# EAGLE library part ADS1115 (library IntegratedLib)
ADC Externo Low-Power 4Ch, 16bits (VSSOP-10)
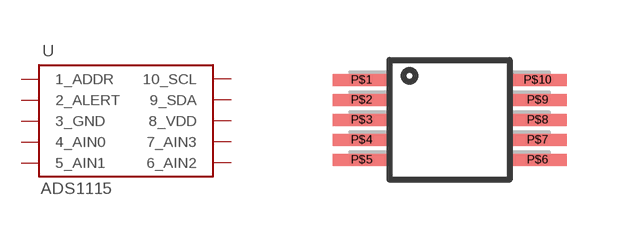
[diagram p36: symbol with the pads of VSSOP-10; footprint VSSOP-10]

Designator prefix U

## ADS1115 (FABRICANTE: TEXAS INSTRUMENTS; PARTNUMBER: ADS1115IDGS; TIPO: CIRCUITO INTEGRADO)  [VSSOP-10]
P$1  1_ADDR
P$2  2_ALERT
P$3  3_GND
P$4  4_AIN0
P$5  5_AIN1
P$6  6_AIN2
P$7  7_AIN3
P$8  8_VDD
P$9  9_SDA
P$10  10_SCL

## Footprint VSSOP-10 (pad centres in mm)
smd 1.45 x 0.3: P$1 -2.2,1; P$2 -2.2,0.5; P$3 -2.2,0; P$4 -2.2,-0.5; P$5 -2.2,-1; P$6 2.2,-1; P$7 2.2,-0.5; P$8 2.2,0; P$9 2.2,0.5; P$10 2.2,1